# EAGLE library part A6S-5104-H (library SpaceDIY_connectors)
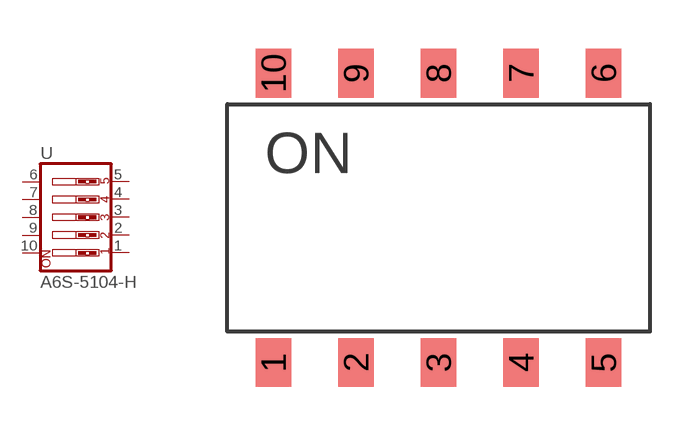
[diagram p0: symbol with the pads of A6S-5104-H; footprint A6S-5104-H]

Designator prefix -

## A6S-5104-H  [A6S-5104-H]
1  1  pas
2  2  pas
3  3  pas
4  4  pas
5  5  pas
6  6  pas
7  7  pas
8  8  pas
9  9  pas
10  10  pas

## Footprint A6S-5104-H (pad centres in mm)
smd 1.1 x 1.5: 1 -5.08,-4.45; 2 -2.54,-4.45; 3 0,-4.45; 4 2.54,-4.45; 5 5.08,-4.45; 6 5.08,4.45; 7 2.54,4.45; 8 0,4.45; 9 -2.54,4.45; 10 -5.08,4.45